# EAGLE library part KSZ8041TL (library micrel)
Physical Layer Transceiver 10Base-T/100Base-TX/100Base-FX
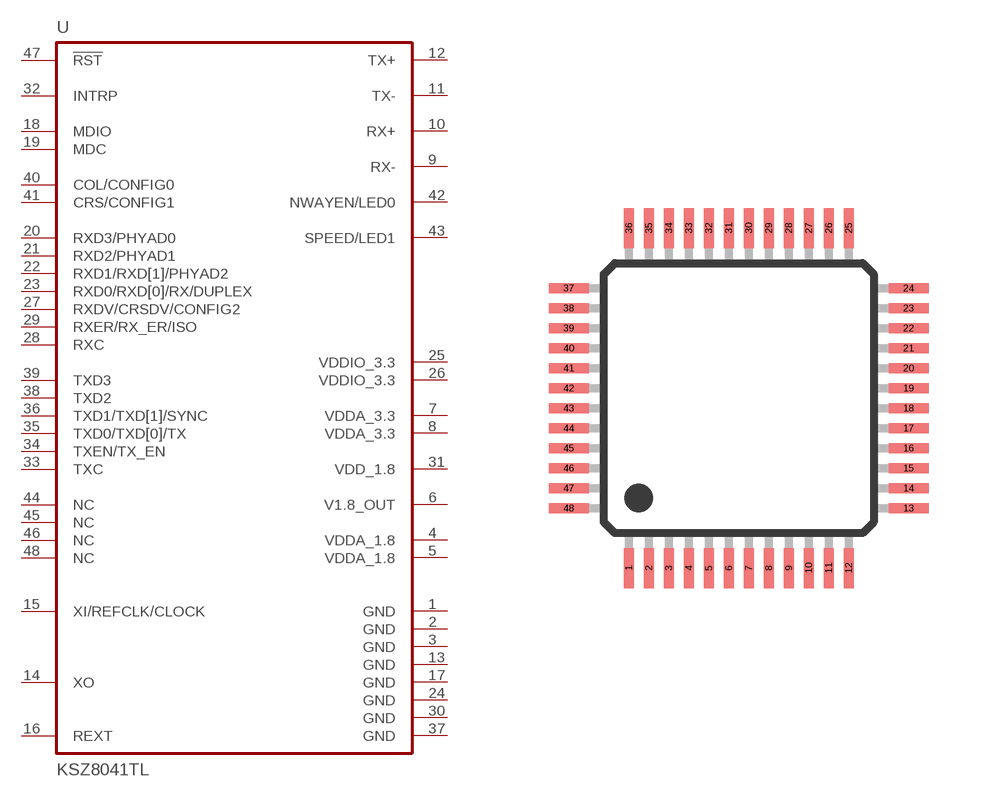
[diagram p5: symbol with the pads of TQFP48; footprint TQFP48]

Designator prefix U

## KSZ8041TL  [TQFP48]
1  GND  pwr
2  GND  pwr
3  GND  pwr
4  VDDA_1.8  in
5  VDDA_1.8  in
6  V1.8_OUT  out
7  VDDA_3.3  in
8  VDDA_3.3  in
9  RX-  in
10  RX+  in
11  TX-  out
12  TX+  out
13  GND  pwr
14  XO  out
15  XI/REFCLK/CLOCK  in
16  REXT  pas
17  GND  pwr
18  MDIO
19  MDC  in
20  RXD3/PHYAD0
21  RXD2/PHYAD1
22  RXD1/RXD[1]/PHYAD2
23  RXD0/RXD[0]/RX/DUPLEX
24  GND  pwr
25  VDDIO_3.3  pwr
26  VDDIO_3.3  pwr
27  RXDV/CRSDV/CONFIG2
28  RXC  out
29  RXER/RX_ER/ISO
30  GND  pwr
31  VDD_1.8  in
32  INTRP  out
33  TXC
34  TXEN/TX_EN  in
35  TXD0/TXD[0]/TX  in
36  TXD1/TXD[1]/SYNC  in
37  GND  pwr
38  TXD2  in
39  TXD3  in
40  COL/CONFIG0
41  CRS/CONFIG1
42  NWAYEN/LED0  out
43  SPEED/LED1  out
44  NC  nc
45  NC  nc
46  NC  nc
47  !RST  in
48  NC  nc

## Footprint TQFP48 (pad centres in mm)
TQFP48 7mm x 7mm
smd 0.25 x 1: 1 -2.75,-4.25; 2 -2.25,-4.25; 3 -1.75,-4.25; 4 -1.25,-4.25; 5 -0.75,-4.25; 6 -0.25,-4.25; 7 0.25,-4.25; 8 0.75,-4.25; 9 1.25,-4.25; 10 1.75,-4.25; 11 2.25,-4.25; 12 2.75,-4.25; 25 2.75,4.25; 26 2.25,4.25; 27 1.75,4.25; 28 1.25,4.25; 29 0.75,4.25; 30 0.25,4.25; 31 -0.25,4.25; 32 -0.75,4.25; 33 -1.25,4.25; 34 -1.75,4.25; 35 -2.25,4.25; 36 -2.75,4.25
smd 1 x 0.25: 13 4.25,-2.75; 14 4.25,-2.25; 15 4.25,-1.75; 16 4.25,-1.25; 17 4.25,-0.75; 18 4.25,-0.25; 19 4.25,0.25; 20 4.25,0.75; 21 4.25,1.25; 22 4.25,1.75; 23 4.25,2.25; 24 4.25,2.75; 37 -4.25,2.75; 38 -4.25,2.25; 39 -4.25,1.75; 40 -4.25,1.25; 41 -4.25,0.75; 42 -4.25,0.25; 43 -4.25,-0.25; 44 -4.25,-0.75; 45 -4.25,-1.25; 46 -4.25,-1.75; 47 -4.25,-2.25; 48 -4.25,-2.75